# EAGLE library part LM2852 (library 68komputer)
2A 500/1500kHz Synchronous Buck Regulator Footprint Proven Information <http://www.ti.com/product/lm2852/description>
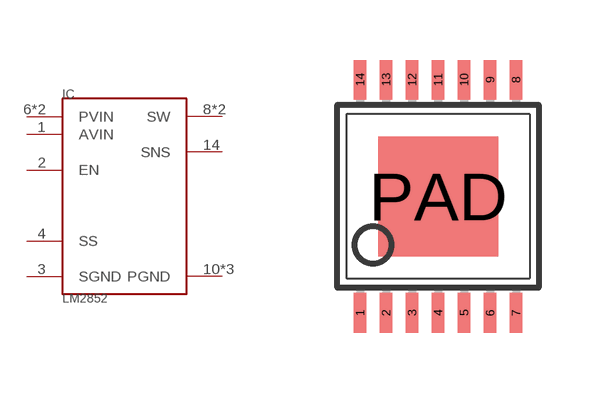
[diagram p3: symbol with the pads of HTSSOP14; footprint HTSSOP14]

Designator prefix IC

## LM2852HTSSOP14 (MOUSER: 926-LM2852YMXA33NOPB)  [HTSSOP14]
1  AVIN  pwr
2  EN  in
3  SGND  pwr
4  SS
6  PVIN  pwr
7  PVIN  pwr
8  SW
9  SW
10  PGND  pwr
11  PGND  pwr
14  SNS
PAD  PGND  pwr

## Footprint HTSSOP14 (pad centres in mm)
Thin Shrink Small Outline Plastic 14 MAX3223-MAX3243.pdf
smd 0.305 x 0.991: 1 -1.95,-2.918; 2 -1.3,-2.918; 3 -0.65,-2.918; 4 0,-2.918; 5 0.65,-2.918; 6 1.3,-2.918; 7 1.95,-2.918; 8 1.95,2.918; 9 1.3,2.918; 10 0.65,2.918; 11 0,2.918; 12 -0.65,2.918; 13 -1.3,2.918; 14 -1.95,2.918
smd 3 x 3: PAD 0,0